# EAGLE library part ICM20689 (library my_ic)
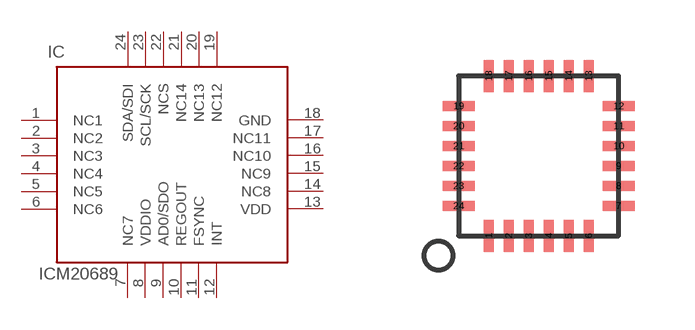
[diagram p28: symbol with the pads of QFN24-4X4; footprint QFN24-4X4]

Designator prefix IC

## ICM20689  [QFN24-4X4]
1  NC1  nc
2  NC2  nc
3  NC3  nc
4  NC4  nc
5  NC5  nc
6  NC6  nc
7  NC7  nc
8  VDDIO  pwr
9  AD0/SDO  out
10  REGOUT  pwr
11  FSYNC
12  INT
13  VDD  pwr
14  NC8  nc
15  NC9  nc
16  NC10  nc
17  NC11  nc
18  GND  pwr
19  NC12  nc
20  NC13  nc
21  NC14  nc
22  NCS  in
23  SCL/SCK  in
24  SDA/SDI  in

## Footprint QFN24-4X4 (pad centres in mm)
smd 0.25 x 0.8: 1 -1.25,-2; 2 -0.75,-2; 3 -0.25,-2; 4 0.25,-2; 5 0.75,-2; 6 1.25,-2; 13 1.25,2; 14 0.75,2; 15 0.25,2; 16 -0.25,2; 17 -0.75,2; 18 -1.25,2
smd 0.8 x 0.25: 7 2,-1.25; 8 2,-0.75; 9 2,-0.25; 10 2,0.25; 11 2,0.75; 12 2,1.25; 19 -2,1.25; 20 -2,0.75; 21 -2,0.25; 22 -2,-0.25; 23 -2,-0.75; 24 -2,-1.25